# Altium footprint library PcbLib2.PcbLib: 34 footprints (part 1 of 3)
Each footprint in its own frame and in the unit in brackets; x right, y up, seen from the top. Pads: shape width x height; smd on the part's side, far side on the other; paste and mask are expansions set on the pad; w line width, h text height; cw(c..) or ccw(c..) is an arc to the next point about the centre after c.
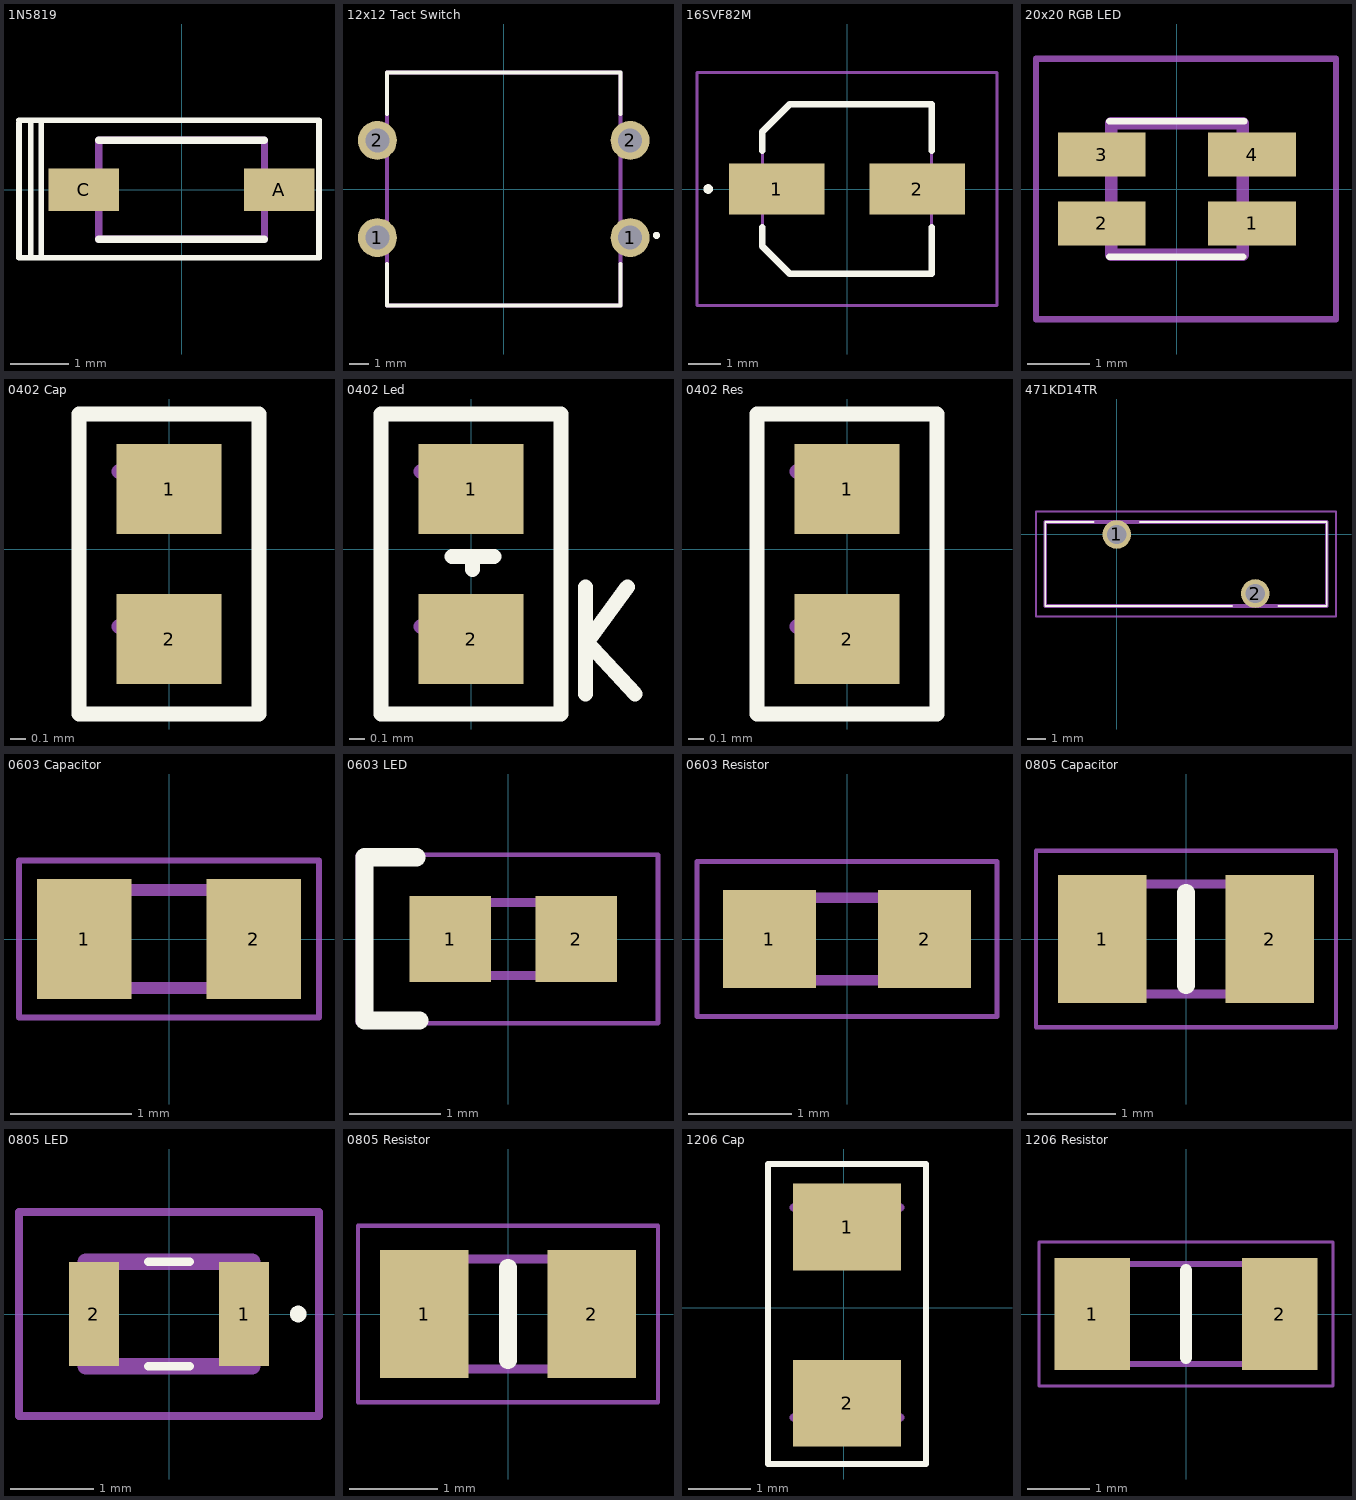
[diagram p0: the footprints below, top view; thin cyan lines are the x and y axes]

## 1N5819 [mm]
pads (2):
  rect 1.21x0.73 smd: A(1.68,0) C(-1.68,0)
Top Overlay:
  lines w0.1: -2.794,-1.168 -2.591,-1.168 ; -2.794,-1.143 -2.794,1.143 ; -2.794,1.194 -2.591,1.194 2.362,1.194 2.362,-1.168 -2.591,-1.168 ; -2.591,1.168 -2.591,-1.168 ; -2.413,-1.143 -2.413,1.143
  lines w0.127: -1.425,-0.85 1.425,-0.85 ; -1.425,0.85 1.425,0.85
Mechanical 13:
  lines w0.127: -1.425,-0.85 -1.425,0.85 1.425,0.85 1.425,-0.85 -1.425,-0.85
3D body "CircuitWorks-SOD123.step": height 1.27, standoff 0, extent -1.85,-0.8 1.85,0.8

## 12x12 Tact Switch [mm]
pads (4):
  round 2 hole 1.25: 1(-6.5,-2.5) 1(6.5,-2.5) 2(-6.5,2.5) 2(6.5,2.5)
Top Overlay:
  circle w0.2: c7.855,-2.384 r0.082
  lines w0.2: -6,-3.849 -6,-6 6,-6 6,-3.849 ; -6,3.849 -6,6 6,6 6,3.849
Mechanical 13:
  lines w0.2: -6,-6 -6,6 6,6 6,-6 -6,-6
3D body "B3F-4005.stp": height 7.3, standoff -3.5, extent -6.9,-6.05 6.9,6.05

## 16SVF82M [mm]
pads (2):
  rect 3x1.6 smd: 1(-2.2,0) 2(2.2,0)
Top Overlay:
  lines w0.2: -2.65,-1.2 -2.65,-1.8 -1.8,-2.65 2.65,-2.65 2.65,-1.2 ; -2.65,1.2 -2.65,1.8 -1.8,2.65 2.65,2.65 2.65,1.2 ; -4.4,0 cw(c-4.35,0) -4.3,0 ; -4.4,0 ccw(c-4.35,0) -4.3,0 ; -4.4,0 cw(c-4.35,0) -4.3,0
Mechanical 13:
  lines w0.1: -2.65,-1.8 -2.65,1.2 -2.65,1.8 -1.8,2.65 2.65,2.65 2.65,-2.65 -1.8,-2.65 -2.65,-1.8
Mechanical 15:
  lines w0.1: -4.7,-3.65 -4.7,3.65 4.7,3.65 4.7,-3.65 -4.7,-3.65
3D body "10SVPC68M.stp": height 0.46, standoff 0.46, extent 0,0 0,0

## 20x20 RGB LED [mm]
pads (4):
  rect 1.4x0.7 smd: 1(1.2,-0.55) 2(-1.2,-0.55) 3(-1.2,0.55) 4(1.2,0.55)
Top Overlay:
  lines w0.1: -1.08,-1.08 1.06,-1.08 ; -1.08,1.08 1.08,1.08 ; 1.44,-0.55 cw(c1.49,-0.55) 1.54,-0.55 cw(c1.49,-0.55) 1.44,-0.55
Mechanical 13:
  lines w0.2: -1.05,-1.05 -1.05,1.05 1.05,1.05 1.05,-1.05 -1.05,-1.05
Mechanical 15:
  lines w0.1: -2.25,-2.08 -2.25,2.08 2.54,2.08 2.54,-2.08 -2.25,-2.08
3D body "FM-B2020RGBA-HG.stp": height 1.2, standoff 0, extent -1.05,-1.05 1.05,1.05

## 0402 Cap [mm]
pads (2):
  rect 0.7x0.6 smd: 1(0,0.4) 2(0,-0.6)
Top Overlay:
  lines w0.1: -0.6,-1.1 -0.6,0.9 0.6,0.9 0.6,-1.1 -0.6,-1.1
Mechanical 13:
  lines w0.1: -0.333,-0.515 0.187,-0.515 ; -0.333,0.515 0.187,0.515
3D body "0402 cap.STEP": height 0.52, standoff 0, extent -0.262,-0.6 0.262,0.4

## 0402 Led [mm]
pads (2):
  rect 0.7x0.6 smd: 1(0,0.4) 2(0,-0.6)
Top Overlay:
  lines w0.1: -0.127,-0.051 0.152,-0.051 ; 0.011,-0.136 0.013,-0.051 ; 0.762,-0.965 0.762,-0.254 ; 0.762,-0.635 1.041,-0.254 ; 0.762,-0.61 1.092,-0.965 ; -0.6,-1.1 -0.6,0.9 0.6,0.9 0.6,-1.1 -0.6,-1.1
Mechanical 13:
  lines w0.1: -0.333,-0.515 0.187,-0.515 ; -0.333,0.515 0.187,0.515
3D body "User Library-LED_1006_W.STEP": height 0.2, standoff 0, extent -0.3,-0.602 0.3,0.399

## 0402 Res [mm]
pads (2):
  rect 0.7x0.6 smd: 1(0,0.4) 2(0,-0.6)
Top Overlay:
  lines w0.1: -0.6,-1.1 0.6,-1.1 0.6,0.9 -0.6,0.9 -0.6,-1.1
Mechanical 13:
  lines w0.1: -0.333,-0.515 0.187,-0.515 ; -0.333,0.515 0.187,0.515
3D body "0402 resistor.STEP": height 0.35, standoff 0, extent -0.25,-0.6 0.25,0.4

## 471KD14TR [mm]
pads (2):
  round 1.55 hole 1.05: 1(0,0) 2(7.5,-3.2)
Top Overlay:
  lines w0.1: -1.25,0.675 -3.875,0.675 -3.875,-3.875 6.25,-3.875 ; 1.25,0.675 11.375,0.675 11.375,-3.875 8.75,-3.875
Mechanical 13:
  lines w0.2: -3.875,-3.875 -3.875,0.675 11.375,0.675 11.375,-3.875 -3.875,-3.875
Mechanical 15:
  lines w0.1: -4.375,-4.45 -4.375,1.25 11.875,1.25 11.875,-4.45 -4.375,-4.45
3D body "471KD14-TR.stp": height 17.35, standoff -5, extent -3.875,-3.875 11.375,0.675

## 0603 Capacitor [mm]
pads (2):
  rect 0.78x0.99 smd: 1(-0.7,0) 2(0.7,0)
Mechanical 13:
  lines w0.1: -0.8,-0.405 0.8,-0.405 0.8,0.405 -0.8,0.405 -0.8,-0.405
Mechanical 15:
  lines w0.05: -1.24,-0.65 1.24,-0.65 1.24,0.65 -1.24,0.65 -1.24,-0.65
3D body "06031A120JAT2A.stp": height 0.9, standoff 0, extent -0.8,-0.405 0.8,0.405

## 0603 LED [mm]
pads (2):
  rect 0.9x0.95 smd: 1(-0.635,0) 2(0.75,0)
Top Overlay:
  lines w0.2: -1.5,-0.895 -0.975,-0.895 -1.579,-0.895 -1.579,0.9 -1.005,0.9
Mechanical 13:
  lines w0.1: -0.8,0.133 -0.533,0.4 ; -0.8,-0.4 -0.8,0.4 0.8,0.4 0.8,-0.4 -0.8,-0.4
Mechanical 15:
  lines w0.05: -1.65,-0.925 -1.65,0.925 1.65,0.925 1.65,-0.925 -1.65,-0.925

## 0603 Resistor [mm]
pads (2):
  rect 0.9x0.95 smd: 1(-0.75,0) 2(0.75,0)
Mechanical 13:
  lines w0.1: -0.775,-0.4 0.775,-0.4 0.775,0.4 -0.775,0.4 -0.775,-0.4
Mechanical 15:
  lines w0.05: -1.45,-0.75 1.45,-0.75 1.45,0.75 -1.45,0.75 -1.45,-0.75
3D body "CPF0603B100RE1.stp": height 0.55, standoff 0, extent -0.775,-0.4 0.775,0.4

## 0805 Capacitor [mm]
pads (2):
  rect 1x1.45 smd: 1(-0.95,0) 2(0.95,0)
Top Overlay:
  lines w0.2: 0,-0.525 0,0.525
Mechanical 13:
  lines w0.1: -1,-0.625 1,-0.625 1,0.625 -1,0.625 -1,-0.625
Mechanical 15:
  lines w0.05: -1.7,-1 1.7,-1 1.7,1 -1.7,1 -1.7,-1
3D body "CPF0805B105KE1.stp": height 0.65, standoff 0, extent -1,-0.625 1,0.625

## 0805 LED [mm]
pads (2):
  rect 0.6x1.25 smd: 1(0.9,0) 2(-0.9,0)
Top Overlay:
  lines w0.1: -0.25,-0.625 0.25,-0.625 ; -0.25,0.625 0.25,0.625 ; 1.5,0 cw(c1.55,0) 1.6,0 cw(c1.55,0) 1.5,0
Mechanical 13:
  lines w0.2: -1,-0.625 -1,0.625 1,0.625 1,-0.625 -1,-0.625
Mechanical 15:
  lines w0.1: -1.8,-1.225 -1.8,1.225 1.8,1.225 1.8,-1.225 -1.8,-1.225
3D body "17-21SYGC_S530-E2_TR8.stp": height 1, standoff 0, extent -1,-0.625 1,0.625

## 0805 Resistor [mm]
pads (2):
  rect 1x1.45 smd: 1(-0.95,0) 2(0.95,0)
Top Overlay:
  lines w0.2: 0,-0.525 0,0.525
Mechanical 13:
  lines w0.1: -1,-0.625 -1,0.625 1,0.625 1,-0.625 -1,-0.625
Mechanical 15:
  lines w0.05: -1.7,-1 -1.7,1 1.7,1 1.7,-1 -1.7,-1
3D body "CPF0805B105KE1.stp": height 0.65, standoff 0, extent -1,-0.625 1,0.625

## 1206 Cap [mil]
pads (2):
  rect 68.5x55 smd: 1(2,51) 2(2,-60.48)
Top Overlay:
  lines w3.94: -48,-99 -48,91 52,91 52,-99 -48,-99
Mechanical 13:
  lines w5: -31.86,-69.54 35.86,-69.54 ; -31.86,63.54 35.86,63.54
3D body "User Library-Vhip cap 1206.step": height 69.25, standoff 0.75, extent -31.93,-65.99 35,59.99

## 1206 Resistor [mm]
pads (2):
  rect 1.2x1.8 smd: 1(-1.5,0) 2(1.5,0)
Top Overlay:
  lines w0.2: 0,-0.7 0,0.7
Mechanical 13:
  lines w0.1: -1.6,-0.8 1.6,-0.8 1.6,0.8 -1.6,0.8 -1.6,-0.8
Mechanical 15:
  lines w0.05: -2.35,-1.15 2.35,-1.15 2.35,1.15 -2.35,1.15 -2.35,-1.15
3D body "CR1206-FX-10R0ELF.stp": height 0.75, standoff 0, extent -1.6,-0.8 1.6,0.8